# Altium footprint library Half_bridge_PWM.PcbLib: 1 footprints
Each footprint in its own frame and in the unit in brackets; x right, y up, seen from the top. Pads: shape width x height; smd on the part's side, far side on the other; paste and mask are expansions set on the pad; w line width, h text height; cw(c..) or ccw(c..) is an arc to the next point about the centre after c.
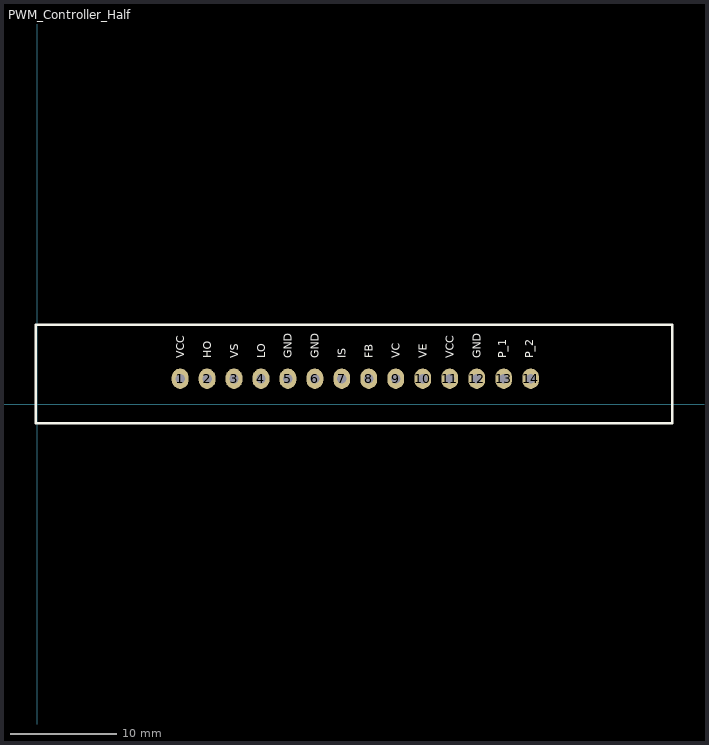
[diagram p0: the footprint, top view; thin cyan lines are the x and y axes]

## PWM_Controller_Half [mil]
pads (14):
  oval 62x75 hole 35: 1(530,95) 2(630,95) 3(730,95) 4(830,95) 5(930,95) 6(1030,95) 7(1130,95) 8(1230,95) 9(1330,95) 10(1430,95) 11(1530,95) 12(1630,95) 13(1730,95) 14(1830,95)
Top Overlay:
  lines w10: -5,-70 2355,-70 2355,295 -5,295 -5,-70
  text "VCC" at 545,170 h30
  text "HO" at 645,170 h30
  text "VS" at 745,170 h30
  text "LO" at 845,170 h30
  text "GND" at 945,170 h30
  text "GND" at 1045,170 h30
  text "IS" at 1145,170 h30
  text "FB" at 1245,170 h30
  text "VC" at 1345,170 h30
  text "VE" at 1445,170 h30
  text "VCC" at 1545,170 h30
  text "GND" at 1645,170 h30
  text "P_1" at 1740,170 h30
  text "P_2" at 1840,170 h30
Bottom Overlay:
  text "GND" at 1645,30 h30
  text "VCC" at 1545,30 h30
  text "VE" at 1445,30 h30
  text "VC" at 1345,30 h30
  text "FB" at 1245,30 h30
  text "IS" at 1145,30 h30
  text "GND" at 1045,30 h30
  text "GND" at 945,30 h30
  text "LO" at 845,30 h30
  text "VS" at 745,30 h30
  text "HO" at 645,30 h30
  text "VCC" at 545,30 h30
  text "P_1" at 1740,30 h30
  text "P_2" at 1840,30 h30
3D body "PWM_Controller_Half_Bridge_V2.step": height 203.07, standoff -1211.1, extent 0,-75.14 2362.2,298.99